# EAGLE library part OP1_7 (library macros)
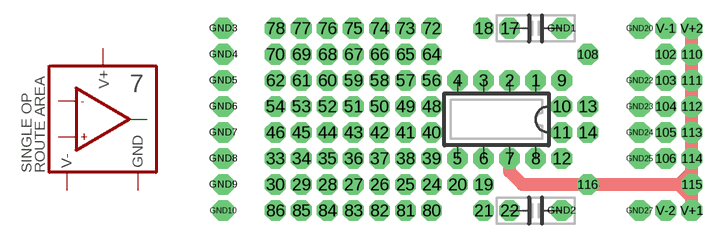
[diagram p2: symbol with the pads of OP1_7; footprint OP1_7]

Designator prefix $

## OP1_7  [OP1_7]
GND1  GND  pwr
GND2  GND  pwr
GND3  GND  pwr
GND4  GND  pwr
GND5  GND  pwr
GND6  GND  pwr
GND7  GND  pwr
GND8  GND  pwr
GND9  GND  pwr
GND10  GND  pwr
GND20  GND  pwr
GND22  GND  pwr
GND23  GND  pwr
GND24  GND  pwr
GND25  GND  pwr
GND27  GND  pwr
V+1  V+  pwr
V+2  V+  pwr
V-1  V-  pwr
V-2  V-  pwr

## Footprint OP1_7 (pad centres in mm)
drill 0.813 pad 2.032 octagon: 1 0,0; 2 -2.54,0; 3 -5.08,0; 4 -7.62,0; 5 -7.62,-7.62; 6 -5.08,-7.62; 7 -2.54,-7.62; 8 0,-7.62; 9 2.54,0; 10 2.54,-2.54; 11 2.54,-5.08; 12 2.54,-7.62; 13 5.08,-2.54; 14 5.08,-5.08; 17 -2.54,5.08; 18 -5.08,5.08; 19 -5.08,-10.16; 20 -7.62,-10.16; 21 -5.08,-12.7; 22 -2.54,-12.7; 24 -10.16,-10.16; 25 -12.7,-10.16; 26 -15.24,-10.16; 27 -17.78,-10.16; 28 -20.32,-10.16; 29 -22.86,-10.16; 30 -25.4,-10.16; 33 -25.4,-7.62; 34 -22.86,-7.62; 35 -20.32,-7.62; 36 -17.78,-7.62; 37 -15.24,-7.62; 38 -12.7,-7.62; 39 -10.16,-7.62; 40 -10.16,-5.08; 41 -12.7,-5.08; 42 -15.24,-5.08; 43 -17.78,-5.08; 44 -20.32,-5.08; 45 -22.86,-5.08; 46 -25.4,-5.08; 48 -10.16,-2.54; 49 -12.7,-2.54; 50 -15.24,-2.54; 51 -17.78,-2.54; 52 -20.32,-2.54; 53 -22.86,-2.54; 54 -25.4,-2.54; 56 -10.16,0; 57 -12.7,0; 58 -15.24,0; 59 -17.78,0; 60 -20.32,0; 61 -22.86,0; 62 -25.4,0; 64 -10.16,2.54; 65 -12.7,2.54; 66 -15.24,2.54; 67 -17.78,2.54; 68 -20.32,2.54; 69 -22.86,2.54; 70 -25.4,2.54; 72 -10.16,5.08; 73 -12.7,5.08; 74 -15.24,5.08; 75 -17.78,5.08; 76 -20.32,5.08; 77 -22.86,5.08; 78 -25.4,5.08; 80 -10.16,-12.7; 81 -12.7,-12.7; 82 -15.24,-12.7; 83 -17.78,-12.7; 84 -20.32,-12.7; 85 -22.86,-12.7; 86 -25.4,-12.7; 102 12.7,2.54; 103 12.7,0; 104 12.7,-2.54; 105 12.7,-5.08; 106 12.7,-7.62; 108 5.08,2.54; 110 15.24,2.54; 111 15.24,0; 112 15.24,-2.54; 113 15.24,-5.08; 114 15.24,-7.62; 115 15.24,-10.16; 116 5.08,-10.16; GND1 2.54,5.08; GND2 2.54,-12.7; GND3 -30.48,5.08; GND4 -30.48,2.54; GND5 -30.48,0; GND6 -30.48,-2.54; GND7 -30.48,-5.08; GND8 -30.48,-7.62; GND9 -30.48,-10.16; GND10 -30.48,-12.7; GND20 10.16,5.08; GND22 10.16,0; GND23 10.16,-2.54; GND24 10.16,-5.08; GND25 10.16,-7.62; GND27 10.16,-12.7; V+1 15.24,-12.7; V+2 15.24,5.08; V-1 12.7,5.08; V-2 12.7,-12.7